# EAGLE library part USB3340 (library controller)
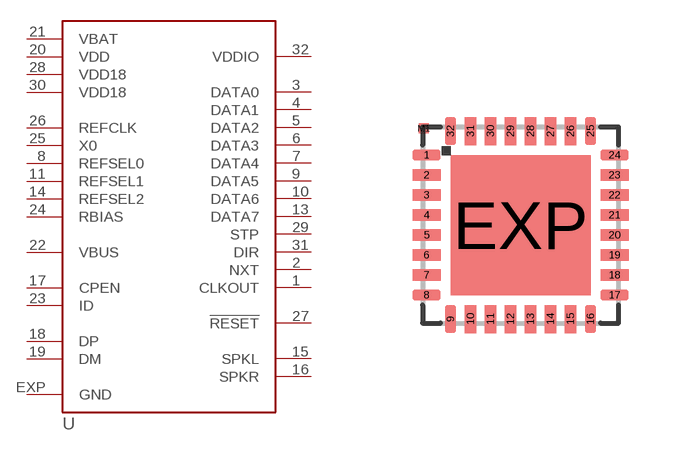
[diagram p5: symbol with the pads of HVQFN32; footprint HVQFN32]

Designator prefix -

## USB3340  [HVQFN32]
1  CLKOUT
2  NXT
3  DATA0
4  DATA1
5  DATA2
6  DATA3
7  DATA4
8  REFSEL0  in
9  DATA5
10  DATA6
11  REFSEL1  in
13  DATA7
14  REFSEL2  in
15  SPKL
16  SPKR
17  CPEN
18  DP
19  DM
20  VDD  pwr
21  VBAT  pwr
22  VBUS  in
23  ID  in
24  RBIAS
25  X0
26  REFCLK  in
27  !RESET  in
28  VDD18  pwr
29  STP
30  VDD18  pwr
31  DIR
32  VDDIO  pwr
EXP  GND  pwr

## Footprint HVQFN32 (pad centres in mm)
HVQFN32 (SOT617-3) 5 x 5 x .85 mm, Pitch 0.5mm Source: http://www.semiconductors.philips.com/acrobat_download/datasheets/TDA9885_TDA9886_2.pdf
smd 0.7 x 0.28: 1 -2.35,1.75; 2 -2.35,1.25; 3 -2.35,0.75; 4 -2.35,0.25; 5 -2.35,-0.25; 6 -2.35,-0.75; 7 -2.35,-1.25; 8 -2.35,-1.75; 17 2.35,-1.75; 18 2.35,-1.25; 19 2.35,-0.75; 20 2.35,-0.25; 21 2.35,0.25; 22 2.35,0.75; 23 2.35,1.25; 24 2.35,1.75
smd 0.28 x 0.7: 9 -1.75,-2.35; 10 -1.25,-2.35; 11 -0.75,-2.35; 12 -0.25,-2.35; 13 0.25,-2.35; 14 0.75,-2.35; 15 1.25,-2.35; 16 1.75,-2.35; 25 1.75,2.35; 26 1.25,2.35; 27 0.75,2.35; 28 0.25,2.35; 29 -0.25,2.35; 30 -0.75,2.35; 31 -1.25,2.35; 32 -1.75,2.35
smd 3.5 x 3.5: EXP 0,0
smd 0.25 x 0.25: M1 -2.415,2.415